# Altium integrated library USB.IntLib: 4 symbols
Pins are listed as number, name and electrical type; pins without a type are passive.

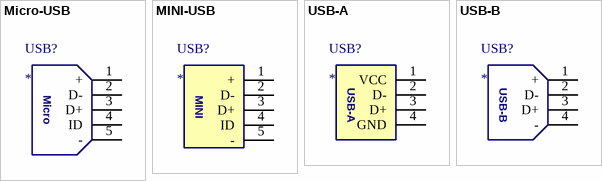
[diagram p0: symbols Micro-USB to USB-B]

## Micro-USB
designator USB?
footprint USB-MICRO_A
footprint USB-MICRO_D
footprint USB-micro_B
footprint USB-micro_C
pins: 1 +, 2 D-, 3 D+, 4 ID, 5 -
text: Micro

## MINI-USB
designator USB?
footprint USB-MINI-A
pins: 1 +, 2 D-, 3 D+, 4 ID, 5 -
text: MINI

## USB-A
designator USB?
footprint USB-A/S_A
footprint USB-A/S_B
footprint USB-A/S_C
footprint USB-A/S_D
footprint USB-A/S_E
footprint USB-A/S_F
footprint USB_A/P_A
footprint USB_A/P_B
pins: 1 VCC, 2 D-, 3 D+, 4 GND

## USB-B
designator USB?
footprint USB-B/S_A
pins: 1 +, 2 D-, 3 D+, 4 -